# Altium schematic symbol library LCQT-TSSOP14.SchLib: 1 symbol
Pins are listed as number, name and electrical type; pins without a type are passive.

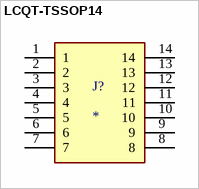
[diagram p0: symbol LCQT-TSSOP14]

## LCQT-TSSOP14
designator J?
SOCKET ADAPTER TSSOP TO 14DIP; MF: Aries Electronics; MP: LCQT-TSSOP14; SnapEDA_Link: https://www.snapeda.com/parts/LCQT-TSSOP14/Aries+Electronics/view-part/?ref=snap; Package: TSSOP-14 Aries; Value: *; Check_prices: https://www.snapeda.com/parts/LCQT-TSSOP14/Aries+Electronics/view-part/?ref=eda
footprint ARIES_LCQT-TSSOP14
pins: 1, 2, 3, 4, 5, 6, 7, 8, 9, 10, 11, 12, 13, 14